# Altium footprint library AS312.PcbLib: 1 footprints
Each footprint in its own frame and in the unit in brackets; x right, y up, seen from the top. Pads: shape width x height; smd on the part's side, far side on the other; paste and mask are expansions set on the pad; w line width, h text height; cw(c..) or ccw(c..) is an arc to the next point about the centre after c.
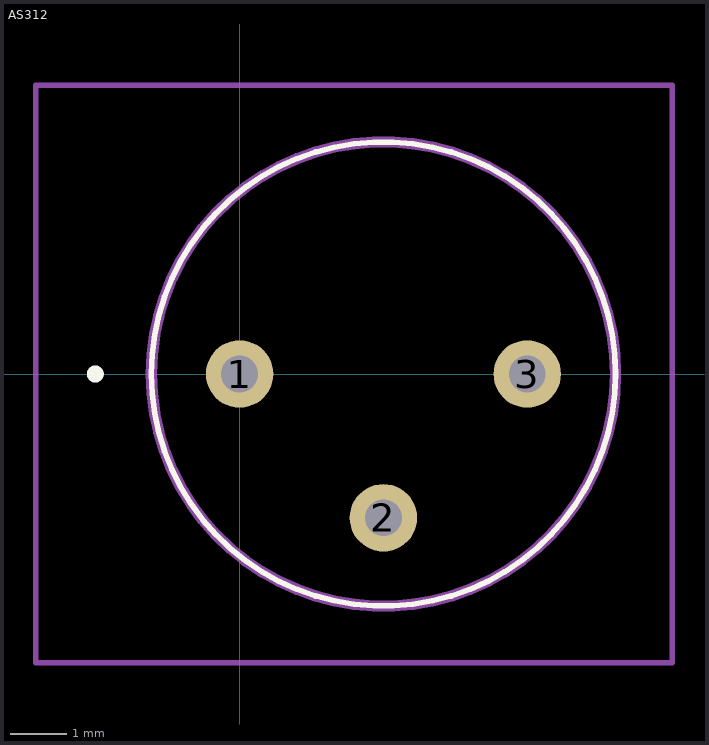
[diagram p0: the footprint, top view; thin cyan lines are the x and y axes]

## AS312 [mm]
pads (3):
  round 1.192 hole 0.65: 1(0,0) 2(2.54,-2.54) 3(5.08,0)
Top Overlay:
  lines w0.1: -1.56,0 cw(c2.54,0) 6.64,0 ; -1.56,0 -1.56,0 ; -1.56,0 ccw(c2.54,0) 6.64,0 ; 6.64,0 6.64,0
  lines w0.2: -2.6,0 cw(c-2.55,0) -2.5,0 ; -2.6,0 -2.6,0 ; -2.6,0 ccw(c-2.55,0) -2.5,0 ; -2.6,0 cw(c-2.55,0) -2.5,0 ; -2.5,0 -2.5,0 ; -2.5,0 -2.5,0
Mechanical 15:
  lines w0.2: -1.56,0 cw(c2.54,0) 6.64,0 ; -1.56,0 -1.56,0 ; -1.56,0 ccw(c2.54,0) 6.64,0 ; 6.64,0 6.64,0
Mechanical 20:
  lines w0.1: -3.6,-5.1 -3.6,5.1 7.64,5.1 7.64,-5.1 -3.6,-5.1